# Altium footprint library LCB50PB-M.PcbLib: 1 footprints
Each footprint in its own frame and in the unit in brackets; x right, y up, seen from the top. Pads: shape width x height; smd on the part's side, far side on the other; paste and mask are expansions set on the pad; w line width, h text height; cw(c..) or ccw(c..) is an arc to the next point about the centre after c.
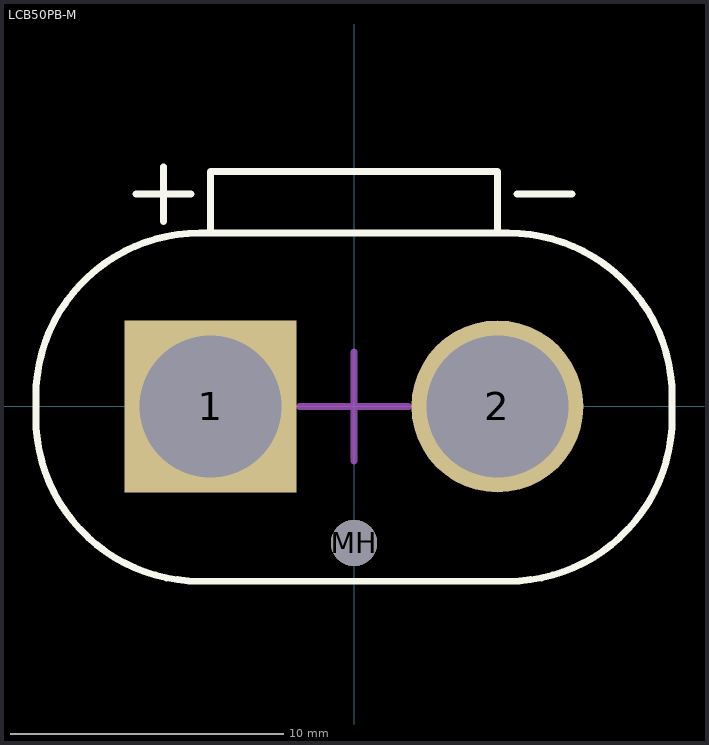
[diagram p0: the footprint, top view; thin cyan lines are the x and y axes]

## LCB50PB-M [mm]
pads (3):
  rect 6.3x6.3 hole 5.2 paste-2539.97 mask+0: 1(-5.25,0)
  round 6.3 hole 5.2 paste-2539.97 mask+0: 2(5.25,0)
  round 1.7 hole 1.7 paste-2539.97 mask+0: MH(0,-5)
Top Overlay:
  lines w0.254: -7.975,7.775 -5.975,7.775 ; -6.975,6.775 -6.975,8.775 ; 5.975,7.775 7.975,7.775 ; -11.65,-0.4 ccw(c-5.65,-0.4) -5.65,-6.4 5.65,-6.4 ccw(c5.65,-0.4) 11.65,-0.4 11.65,0.35 ccw(c5.65,0.35) 5.65,6.35 -5.65,6.35 ccw(c-5.65,0.35) -11.65,0.35 -11.65,-0.4 ; -5.25,6.35 5.25,6.35 5.25,8.6 -5.25,8.6 -5.25,6.35
Top Designator:
  text ".Designator" at -7.493,0.992 h1.52
Center Cross:
  lines w0.254: -2,0 0,0 ; 0,-2 0,0 ; 0,2 0,0 ; 2,0 0,0
3D body "LCB50PB-M 3D DRAWING.stp": height 21.61, standoff -2.99, extent -11.65,-6.4 11.65,8.6